# EAGLE library part MEM2080-00-128-00-A (library ruark2)
9 (8 + 1) Position Card Connector Secure Digital - microSD™ Surface Mount, Right Angle Gold
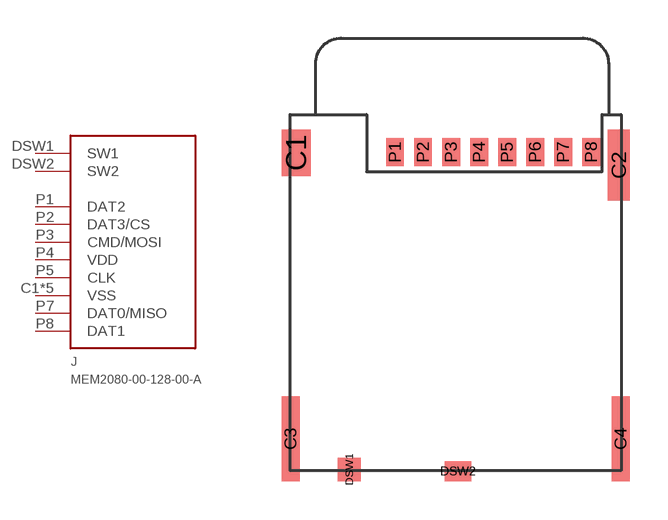
[diagram p196: symbol with the pads of MEM2080; footprint MEM2080]

Designator prefix J

## MEM2080-00-128-00-A (PARTNO: 2073-MEM2080-00-128-00-ACT-ND)  [MEM2080]
C1  VSS
C2  VSS
C3  VSS
C4  VSS
DSW1  SW1
DSW2  SW2
P1  DAT2
P2  DAT3/CS
P3  CMD/MOSI
P4  VDD
P5  CLK
P6  VSS
P7  DAT0/MISO
P8  DAT1

## Footprint MEM2080 (pad centres in mm)
smd 1.14 x 1.83: C1 -6.26,6
smd 0.86 x 2.8: C2 6.4,5.515
smd 0.7 x 3.33: C3 -6.48,-5.25; C4 6.48,-5.25
smd 0.9 x 0.93: DSW1 -4.17,-6.45
smd 1.05 x 0.78: DSW2 0.095,-6.525
smd 0.7 x 1.1: P1 -2.38,6.015; P2 -1.28,6.015; P3 -0.18,6.015; P4 0.92,6.015; P5 2.02,6.015; P6 3.12,6.015; P7 4.22,6.015; P8 5.32,6.015